# Altium schematic symbol library lmh66xx.SCHLIB: 1 symbol
Pins are listed as number, name and electrical type; pins without a type are passive.

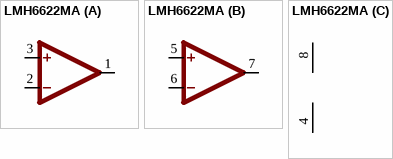
[diagram p0: symbol LMH6622MA]

## LMH6622MA
designator U?, comment OP AMP  (value not drawn)
footprint SO08
part A pins: 1 OUT (oc), 2 -IN, 3 +IN
part B pins: 5 +IN, 6 -IN, 7 OUT (oc)
part C pins: 4 V- (power), 8 V+ (power)